# Altium footprint library CAPPRD750W80D1800H4500.PcbLib: 1 footprints
Each footprint in its own frame and in the unit in brackets; x right, y up, seen from the top. Pads: shape width x height; smd on the part's side, far side on the other; paste and mask are expansions set on the pad; w line width, h text height; cw(c..) or ccw(c..) is an arc to the next point about the centre after c.
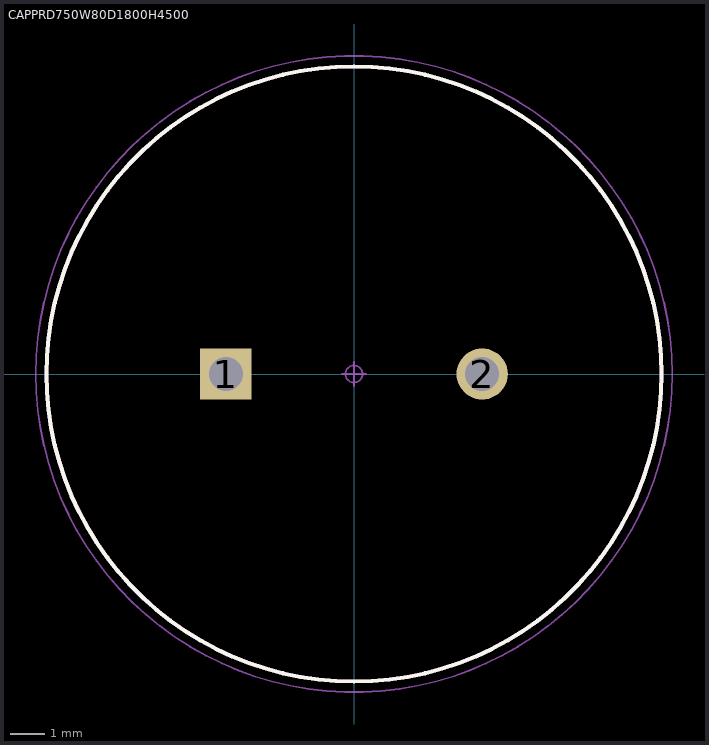
[diagram p0: the footprint, top view; thin cyan lines are the x and y axes]

## CAPPRD750W80D1800H4500 [mm] "Capacitor, Polarized, Radial (Electrolytic); 7.50 mm Pitch X 18.00 mm Dia X 45.00 mm H body"
height 45
pads (2):
  rect 1.5x1.5 / inner round 1.5 / far side rect 1.5x1.5 hole 1 paste-1.5: 1(-3.75,0)
  round 1.5 hole 1 paste-1.5: 2(3.75,0)
Top Overlay:
  circle w0.12: c0,0 r9
Mechanical 3:
  circle w0.12: c0,0 r9
Mechanical 5:
  circle w0.025: c3.75,0 r0.4
  circle w0.025: c-3.75,0 r0.4
Mechanical 7:
  circle w0.05: c0,0 r0.25
  circle w0.05: c0,0 r9.31
  circle w0.025: c0,0 r9
  lines w0.05: -0.35,0 0.35,0 ; 0,-0.35 0,0.35
3D body "CAPPRD750W80D1800H4500.STEP": height 45.01, standoff -2, extent -9,-9 9.01,9